# EAGLE library part ADG3304 (library chips)
Bidirectional level translation; 1.15 V to 5.5 V; Low quiescent current <5 uA; No direction pin
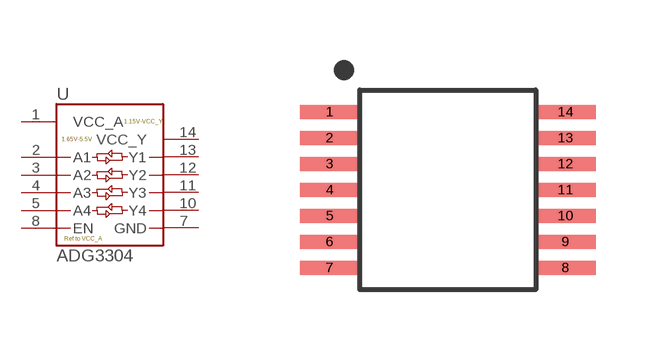
[diagram p50: symbol with the pads of TSSOP-14/5MM; footprint TSSOP-14/5MM]

Designator prefix U

## ADG3304 (DIGIKEY: ADG3304BRUZ-ND)  [TSSOP-14/5MM]
1  VCC_A
2  A1
3  A2
4  A3
5  A4
7  GND
8  EN
10  Y4
11  Y3
12  Y2
13  Y1
14  VCC_Y

## Footprint TSSOP-14/5MM (pad centres in mm)
smd 1.5 x 0.35: 1 -2.95,1.95; 2 -2.95,1.3; 3 -2.95,0.65; 4 -2.95,0; 5 -2.95,-0.65; 6 -2.95,-1.3; 7 -2.95,-1.95; 8 2.95,-1.95; 9 2.95,-1.3; 10 2.95,-0.65; 11 2.95,0; 12 2.95,0.65; 13 2.95,1.3; 14 2.95,1.95